# Altium schematic symbol library XTAL_4P.SchLib: 1 symbol
Pins are listed as number, name and electrical type; pins without a type are passive.

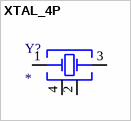
[diagram p0: symbol XTAL_4P]

## XTAL_4P
designator Y?
Value: *
pins: 1 OSC1, 2 GND, 3 OSC2, 4 GND